# Altium schematic symbol library LT3080Q.SchLib: 1 symbol
Pins are listed as number, name and electrical type; pins without a type are passive.

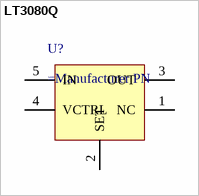
[diagram p0: symbol LT3080Q]

## LT3080Q
designator U?
LT3080 Linear Regulator Q package
pins: 1 NC, 2 SET, 3 OUT, 4 VCTRL, 5 IN